# EAGLE library part ST-L3GD20 (library GClueSensor)
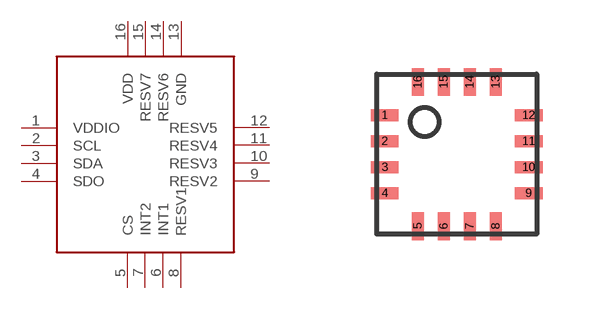
[diagram p7: symbol with the pads of LGA-16; footprint LGA-16]

Designator prefix -

## ST-L3GD20  [LGA-16]
1  VDDIO
2  SCL
3  SDA
4  SDO
5  CS
6  INT1
7  INT2
8  RESV1
9  RESV2
10  RESV3
11  RESV4
12  RESV5
13  GND
14  RESV6
15  RESV7
16  VDD

## Footprint LGA-16 (pad centres in mm)
smd 0.7 x 0.3: 1 -1.8,0.97; 2 -1.8,0.32; 3 -1.8,-0.33; 4 -1.8,-0.98; 9 1.8,-0.98; 10 1.8,-0.33; 11 1.8,0.32; 12 1.8,0.97
smd 0.3 x 0.7: 5 -0.97,-1.8; 6 -0.32,-1.8; 7 0.33,-1.8; 8 0.98,-1.8; 13 0.98,1.8; 14 0.33,1.8; 15 -0.32,1.8; 16 -0.97,1.8